# Altium schematic symbol library TPC.SchLib: 6 symbols
Pins are listed as number, name and electrical type; pins without a type are passive.

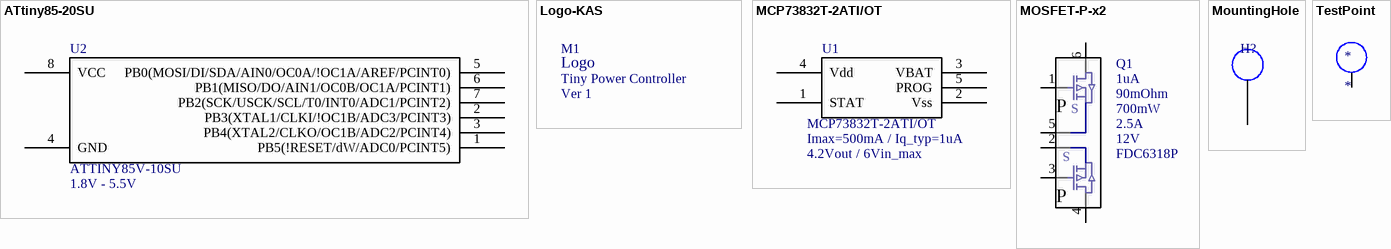
[diagram p0: symbols ATtiny85-20SU to TestPoint]

## ATtiny85-20SU
designator U2, comment Voltage: 1.8V - 5.5V  MPN: ATTINY85V-10SU  (hidden comment: MCU)
IC MCU 8BIT 8KB FLASH 8SOIC; JLC-PN: C152192
footprint 8-SOIC-5.3mm (5.3mm x 5.3mm)
pins: 1 PB5(!RESET/dW/ADC0/PCINT5), 2 PB3(XTAL1/CLKI/!OC1B/ADC3/PCINT3), 3 PB4(XTAL2/CLKO/OC1B/ADC2/PCINT4), 4 GND, 5 PB0(MOSI/DI/SDA/AIN0/OC0A/!OC1A/AREF/PCINT0), 6 PB1(MISO/DO/AIN1/OC0B/OC1A/PCINT1), 7 PB2(SCK/USCK/SCL/T0/INT0/ADC1/PCINT2), 8 VCC

## Logo-KAS
designator M1, comment Ver 1  FullName: Tiny Power Controller  (no BOM)
Logo; DNP: DNP
footprint Logo-KAS

## MCP73832T-2ATI/OT
designator U1, comment Current: Imax=500mA / Iq_typ=1uA  Voltage: 4.2Vout / 6Vin_max  MPN: MCP73832T-2ATI/OT  (hidden comment: Charger)
LiPo Charger 500mA 4.2V; JLC-PN: C173380
footprint SOT-23-5 (SOT-23/SC-74A; 5 Leads; Body 3 x 3.1 mm, inc. leads (LxW max))
pins: 1 STAT, 2 Vss, 3 VBAT, 4 Vdd, 5 PROG

## MOSFET-P-x2
designator Q1, comment Idss: 1uA  Rds: 90mOhm  Pmax: 700mW  Id: 2.5A  Vdss: 12V  MPN: FDC6318P  (hidden comment: 2x PMOS)
MOSFET 2P-CH 12V 2.5A SSOT-6; MPN2: DMP2240UDM-7; JLC-PN: C157543
footprint SOT-23-3
footprint SOT-23-6 (SOT26 SOT23-6)
pins: 1 G, 2 S, 3 G, 4 D, 5 S, 6 D
text: P

## MountingHole
designator H?  (no BOM)
DNP: DNP
footprint Mounting-Hole-2-56 (5mm-2.5mm Dia-Head-4.3mm Dia-threads-2.2)
pins: 0

## TestPoint
designator *  (no BOM)
DNP: DNP
footprint TestPoint-0_9 (0.9mm inner, 2mm outer)
footprint TestPoint-1_0-smt
footprint TestPoint-1_8-smt
pins: 0 TestPoint